# Altium footprint library Transistors_FET_MOSFET.PcbLib: 10 footprints
Each footprint in its own frame and in the unit in brackets; x right, y up, seen from the top. Pads: shape width x height; smd on the part's side, far side on the other; paste and mask are expansions set on the pad; w line width, h text height; cw(c..) or ccw(c..) is an arc to the next point about the centre after c.
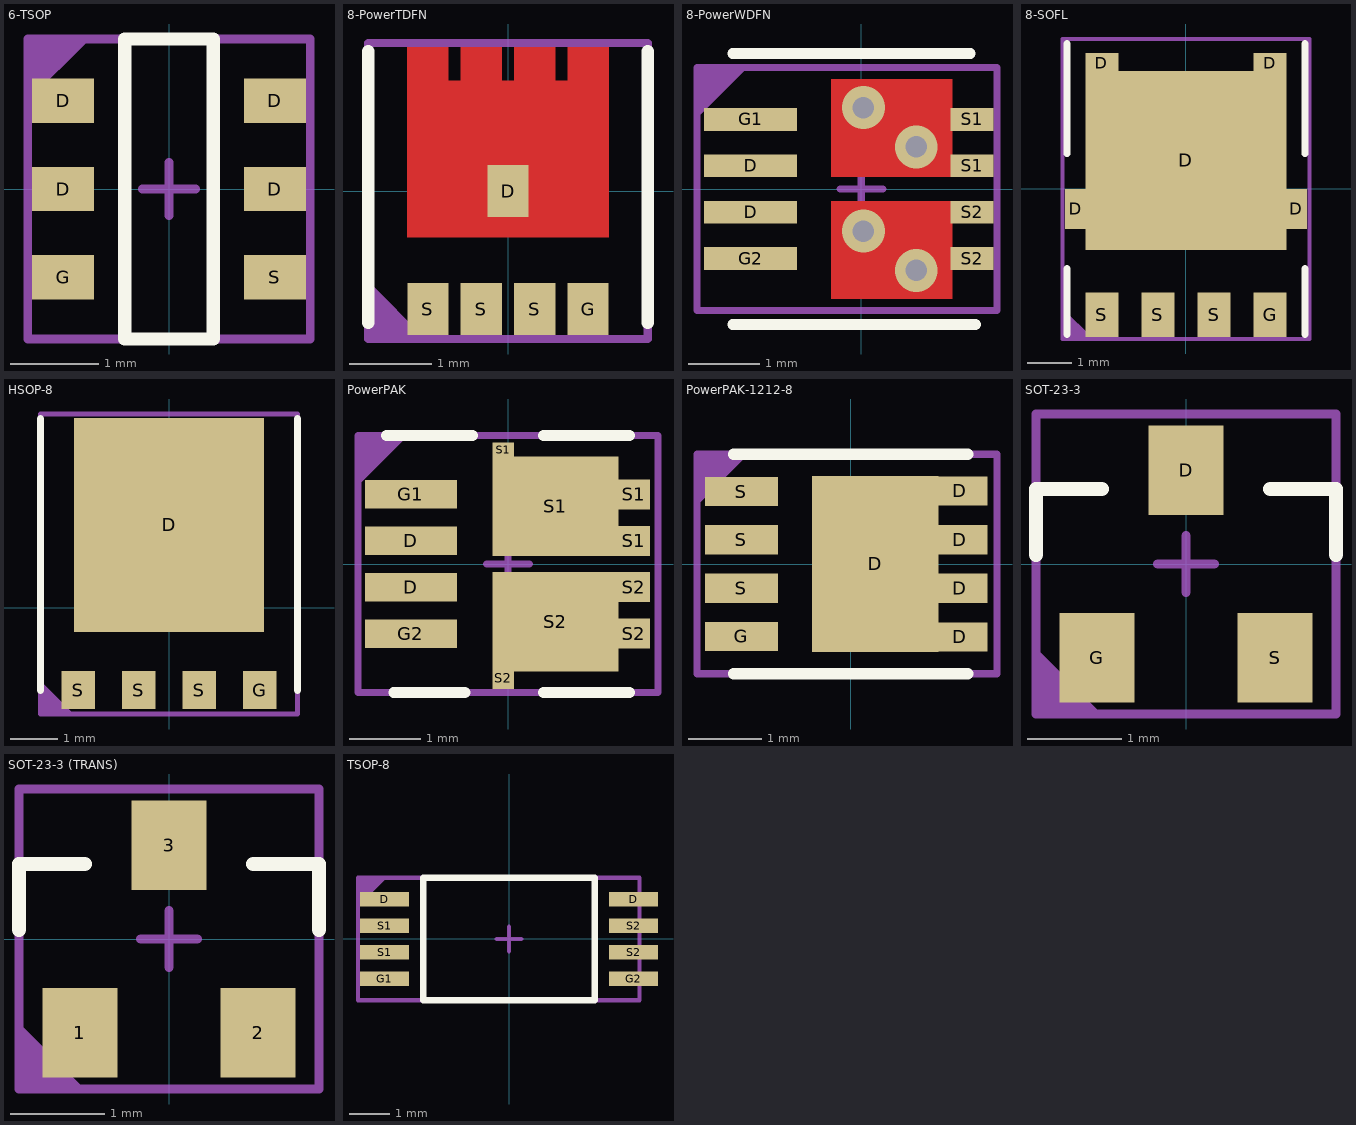
[diagram p0: the footprints below, top view; thin cyan lines are the x and y axes]

## 6-TSOP [mm]
height 1.1
pads (6):
  rect 0.7x0.5 smd: D(-1.2,0) D(-1.2,1) D(1.2,0) D(1.2,1) G(-1.2,-1) S(1.2,-1)
Top Overlay:
  lines w0.153: -0.5,-1.7 -0.5,1.7 0.5,1.7 0.5,-1.7 -0.5,-1.7
  text "." at -1.247,1.553 h0.8
Top Assembly:
  region: -1.6,1.7 -0.9,1.7 -1.6,1
  lines w0.1: -1.6,-1.7 -1.6,1.7 1.6,1.7 1.6,-1.7 -1.6,-1.7
  text "'.Designator'" at -4.532,-0.333 h0.8
Mechanical 15:
  lines w0.1: -0.3,0 0.3,0 ; 0,-0.3 0,0.3 ; -1.6,-1.7 -1.6,1.7 1.6,1.7 1.6,-1.7 -1.6,-1.7
3D body "6-TSOP.step": height 1.11, standoff 0.01, extent -1.412,-1.55 1.412,1.55

## 8-PowerTDFN [mm]
pads (5):
  rect 0.5x0.63 smd paste-1 mask+0: D(0,0)
  rect 0.5x0.63 smd paste-1: G(0.975,-1.435) S(-0.975,-1.435) S(-0.325,-1.435) S(0.325,-1.435)
Top Layer:
  region: -0.725,1.75 -0.725,1.34 -0.575,1.34 -0.575,1.75 -0.075,1.75 -0.075,1.34 0.075,1.34 0.075,1.75 0.575,1.75 0.575,1.34 0.725,1.34 0.725,1.75 1.225,1.75 1.225,-0.56 -1.225,-0.56 -1.225,1.75
Top Overlay:
  lines w0.153: -1.7,-1.6 -1.7,1.7 ; 1.7,-1.6 1.7,1.7
  text "." at -1.653,-2.147 h0.8
Top Paste:
  region: 1.145,0.985 1.145,-0.46 0.125,-0.46 0.125,0.985
  region: -0.805,-1.21 -0.805,-1.66 -1.145,-1.66 -1.145,-1.21
  region: -0.155,-1.21 -0.155,-1.66 -0.495,-1.66 -0.495,-1.21
  region: 1.145,-1.21 1.145,-1.66 0.805,-1.66 0.805,-1.21
  region: 0.495,-1.21 0.495,-1.66 0.155,-1.66 0.155,-1.21
  region: 1.145,1.66 1.145,1.21 0.805,1.21 0.805,1.66
  region: 0.495,1.66 0.495,1.21 0.155,1.21 0.155,1.66
  region: -0.805,1.66 -0.805,1.21 -1.145,1.21 -1.145,1.66
  region: -0.155,1.66 -0.155,1.21 -0.495,1.21 -0.495,1.66
  region: -0.125,0.985 -0.125,-0.46 -1.145,-0.46 -1.145,0.985
Top Solder:
  region: 1.325,1.85 1.325,-0.66 -1.325,-0.66 -1.325,1.85
Top Assembly:
  region: -1.7,-1.8 -1.7,-1.1 -1,-1.8
  lines w0.1: -1.7,-1.8 1.7,-1.8 1.7,1.8 -1.7,1.8 -1.7,-1.8
  text "'.Designator'" at -4.532,-0.333 h0.8
Mechanical 15:
  lines w0.1: -0.3,0 0.3,0 ; 0,-0.3 0,0.3 ; -1.7,-1.8 1.7,-1.8 1.7,1.8 -1.7,1.8 -1.7,-1.8
3D body "User Library-PQFN8.STEP": height 0.77, standoff -0.03, extent -1.65,-1.65 1.65,1.65

## 8-PowerWDFN [mm]
pads (8):
  rect 1.3x0.32 smd: D(-1.55,-0.325) D(-1.55,0.325) G1(-1.55,0.975) G2(-1.55,-0.975)
  rect 0.6x0.32 smd: S1(1.55,0.325) S1(1.55,0.975) S2(1.55,-0.975) S2(1.55,-0.325)
via 0.77,-1.14 diameter 0.6 hole 0.3
via 0.77,0.59 diameter 0.6 hole 0.3
via 0.03,1.14 diameter 0.6 hole 0.3
via 0.03,-0.59 diameter 0.6 hole 0.3
Top Layer:
  region: 1.275,-0.165 -0.425,-0.165 -0.425,-1.54 1.275,-1.54
  rectangle: -0.425,0.165 1.275,1.54
Top Overlay:
  lines w0.153: -1.8,-1.9 1.6,-1.9 ; -1.8,1.9 1.525,1.9
  text "." at -2.447,1.853 h0.8
Top Solder:
  rectangle: -0.425,0.166 1.275,1.54
  region: 1.275,-0.165 -0.425,-0.165 -0.425,-1.54 1.275,-1.54
Top Assembly:
  region: -2.3,1.7 -1.6,1.7 -2.3,1
  lines w0.1: -2.3,-1.7 -2.3,1.7 1.9,1.7 1.9,-1.7 -2.3,-1.7
  text "'.Designator'" at -4.532,-0.333 h0.8
Mechanical 15:
  lines w0.1: -0.3,0 0.3,0 ; 0,-0.3 0,0.3 ; -2.3,-1.7 -2.3,1.7 1.9,1.7 1.9,-1.7 -2.3,-1.7
3D body "User Library-PQFN8.STEP": height 0.78, standoff -0.02, extent -1.8,-1.65 1.5,1.65

## 8-SOFL [mm]
pads (9):
  rect 0.495x0.905 smd: D(-2.5,-0.45) D(2.5,-0.45)
  rect 0.75x0.475 smd: D(-1.905,2.85) D(1.905,2.85)
  rect 4.56x4.055 smd: D(0,0.65)
  rect 0.75x1 smd: G(1.905,-2.85) S(-1.905,-2.85) S(-0.635,-2.85) S(0.635,-2.85)
Top Overlay:
  lines w0.153: -2.7,-3.3 -2.7,-1.8 ; -2.7,0.8 -2.7,3.3 ; 2.7,-3.3 2.7,-1.8 ; 2.7,0.8 2.7,3.3
  text "." at -2.747,-3.797 h0.8
Top Assembly:
  region: -2.8,-3.4 -2.8,-2.7 -2.1,-3.4
  lines w0.1: -2.8,-3.4 2.8,-3.4 2.8,3.4 -2.8,3.4 -2.8,-3.4
  text "'.Designator'" at -4.532,-0.333 h0.8
Mechanical 15:
  lines w0.1: -0.3,0 0.3,0 ; 0,-0.3 0,0.3 ; -2.8,-3.4 2.8,-3.4 2.8,3.4 -2.8,3.4 -2.8,-3.4
3D body "User Library-DFN5x6_SO8FL.STEP": height 1.13, standoff 0, extent -2.575,-3.15 2.575,3

## HSOP-8 [mm]
pads (5):
  rect 4x4.5 smd: D(0,1.735)
  rect 0.7x0.8 smd: G(1.905,-1.735) S(-1.905,-1.735) S(-0.635,-1.735) S(0.635,-1.735)
Top Overlay:
  lines w0.153: -2.7,-1.735 -2.7,3.965 ; 2.7,-1.735 2.7,3.965
  text "." at -2.647,-2.647 h0.8
Top Assembly:
  region: -2.7,-2.235 -2.7,-1.535 -2,-2.235
  lines w0.1: -2.7,-2.235 2.7,-2.235 2.7,4.065 -2.7,4.065 -2.7,-2.235
  text "'.Designator'" at -4.532,-0.333 h0.8
Mechanical 15:
  lines w0.1: -0.3,0 0.3,0 ; 0,-0.3 0,0.3 ; -2.7,-2.235 -2.7,4.065 2.7,4.065 2.7,-2.235 -2.7,-2.235

## PowerPAK [mm]
pads (12):
  rect 1.29x0.4 smd: D(-1.36,-0.325) D(-1.36,0.325) G1(-1.36,0.975) G2(-1.36,-0.975)
  rect 0.3x0.2 smd: S1(-0.066,1.6)
  rect 1.76x1.39 smd: S1(0.664,0.81) S2(0.664,-0.81)
  rect 0.45x0.42 smd: S1(1.76,0.325) S1(1.76,0.975) S2(1.76,-0.975) S2(1.76,-0.325)
  rect 0.3x0.3 smd: S2(-0.066,-1.6)
Top Overlay:
  lines w0.153: -1.7,1.8 -0.5,1.8 ; -1.6,-1.8 -0.6,-1.8 ; 0.5,-1.8 1.7,-1.8 ; 0.5,1.8 1.7,1.8
  text "." at -2.247,1.753 h0.8
Top Assembly:
  region: -2.1,1.8 -1.4,1.8 -2.1,1.1
  lines w0.1: -2.1,-1.8 2.1,-1.8 2.1,1.8 -2.1,1.8 -2.1,-1.8
  text "'.Designator'" at -4.532,-0.333 h0.8
Mechanical 15:
  lines w0.1: -0.3,0 0.3,0 ; 0,-0.3 0,0.3 ; -2.1,-1.8 2.1,-1.8 2.1,1.8 -2.1,1.8 -2.1,-1.8
3D body "User Library-PowerPAK 1212-8S.STEP": height 0.8, standoff 0, extent -1.7,-1.7 1.7,1.7

## PowerPAK-1212-8 [mm]
pads (9):
  rect 1.725x2.4 smd: D(0.335,0)
  rect 0.76x0.4 smd: D(1.493,-0.997) D(1.493,-0.33) D(1.493,0.33) D(1.493,0.998)
  rect 1x0.4 smd: G(-1.492,-0.99) S(-1.492,-0.33) S(-1.492,0.33) S(-1.492,0.99)
Top Overlay:
  lines w0.153: -1.6,-1.5 1.6,-1.5 ; -1.6,1.5 1.6,1.5
  text "." at -2.847,1.453 h0.8
Top Assembly:
  region: -2.1,1.5 -1.4,1.5 -2.1,0.8
  lines w0.1: -2.1,-1.5 2,-1.5 2,1.5 -2.1,1.5 -2.1,-1.5
  text "'.Designator'" at -0.333,4.532 h0.8
Mechanical 15:
  lines w0.1: -0.3,0 0.3,0 ; 0,-0.3 0,0.3 ; -2.1,-1.5 -2.1,1.5 2,1.5 2,-1.5 -2.1,-1.5
3D body "POWERPAK 1212-8SWLH.STEP": height 1.04, standoff 0, extent -1.65,-1.525 1.65,1.525

## SOT-23-3 [mm]
pads (3):
  rect 0.8x0.95 smd: D(0,1) G(-0.95,-1) S(0.95,-1)
Top Overlay:
  lines w0.153: -1.6,0.1 -1.6,0.8 -0.9,0.8 ; 0.9,0.8 1.6,0.8 1.6,0.1
Top Assembly:
  region: -1.6,-1.6 -1.6,-0.9 -0.9,-1.6
  lines w0.1: -1.6,-1.6 1.6,-1.6 1.6,1.6 -1.6,1.6 -1.6,-1.6
  text "'.Designator'" at -4.532,-0.333 h0.8
Mechanical 15:
  lines w0.1: -0.3,0 0.3,0 ; 0,-0.3 0,0.3 ; -1.6,-1.6 1.6,-1.6 1.6,1.6 -1.6,1.6 -1.6,-1.6
3D body "CircuitWorks-SOT-23.STEP": height 1.05, standoff -0.05, extent -1.5,-1.25 1.5,1.25

## SOT-23-3 (TRANS) [mm]
pads (3):
  rect 0.8x0.95 smd: 1(-0.95,-1) 2(0.95,-1) 3(0,1)
Top Overlay:
  lines w0.153: -1.6,0.1 -1.6,0.8 -0.9,0.8 ; 0.9,0.8 1.6,0.8 1.6,0.1
Top Assembly:
  region: -1.6,-1.6 -1.6,-0.9 -0.9,-1.6
  lines w0.1: -1.6,-1.6 -1.6,1.6 1.6,1.6 1.6,-1.6 -1.6,-1.6
  text "'.Designator'" at -4.532,-0.333 h0.8
Mechanical 15:
  lines w0.1: -0.3,0 0.3,0 ; 0,-0.3 0,0.3 ; -1.6,-1.6 -1.6,1.6 1.6,1.6 1.6,-1.6 -1.6,-1.6
3D body "CircuitWorks-SOT-23.STEP": height 1.05, standoff -0.05, extent -1.5,-1.25 1.5,1.25

## TSOP-8 [mm] "TSOP, 8-Leads, Body 2,93x4,40mm, Pitch 0,65mm, Thermal Pad 2,50x4,00mm, IPC Medium Density"
height 1.2
pads (8):
  rect 1.2x0.35 smd mask+0.05: D(-3.05,0.975) D(3.05,0.975) G1(-3.05,-0.975) G2(3.05,-0.975) S1(-3.05,-0.325) S1(-3.05,0.325) S2(3.05,-0.325) S2(3.05,0.325)
Top Overlay:
  lines w0.153: -2.1,-1.5 -2.1,1.5 2.1,1.5 2.1,-1.5 -2.1,-1.5
  text "." at -4.147,0.853 h0.8
Top Assembly:
  region: -3.7,1.5 -3,1.5 -3.7,0.8
  lines w0.1: -3.7,-1.5 3.2,-1.5 3.2,1.5 -3.7,1.5 -3.7,-1.5
  text "'.Designator'" at -4.532,-0.333 h0.8
Mechanical 15:
  lines w0.1: -0.3,0 0.3,0 ; 0,-0.3 0,0.3 ; -3.7,-1.5 -3.7,1.5 3.2,1.5 3.2,-1.5 -3.7,-1.5
3D body "TSOP65P640X120_HS-9N.step": height 1.2, standoff 0, extent -3.2,-1.5 3.2,1.5